# Altium integrated library Plumo-2D.IntLib: 38 symbols
Pins are listed as number, name and electrical type; pins without a type are passive.

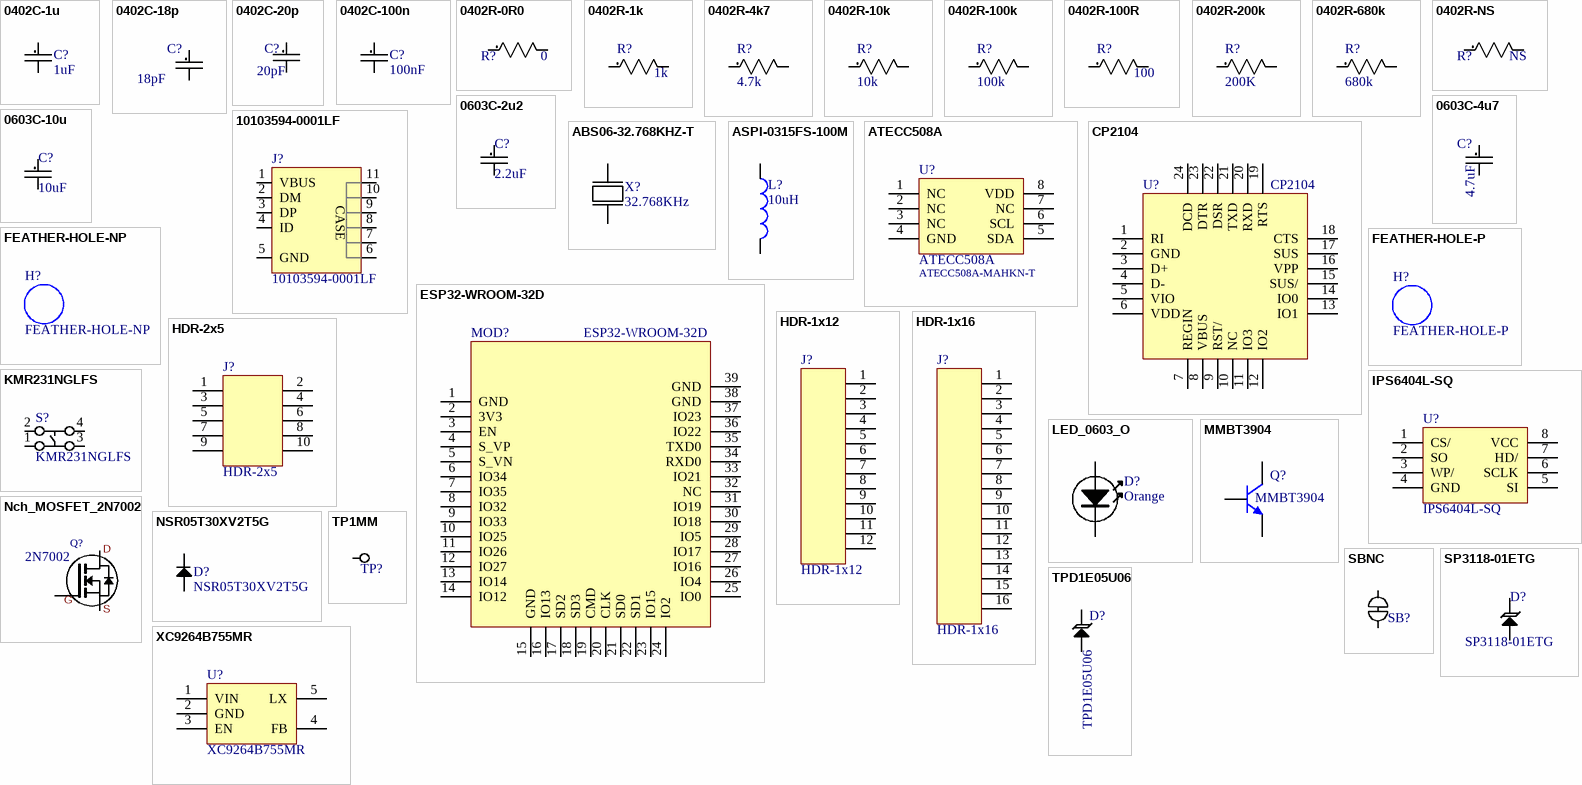
[diagram p0: symbols 0402C-1u to XC9264B755MR]

## 0402C-1u
designator C?, comment 1uF
Capacitor 1uF X5R 6.3V 20% 0402; Manufacturer: SEM; Manufacturer Part Number: CL05A105KQ5NNNC; item_number: E-CAP-00020-00; Type: Chip Monolithic Ceramic Capacitor; Voltage Rating DC: 6.3 VDC; Capacitance - nF: 1000 nF; Value: 1u; Packaging: Cut Tape; Capacitance: 1uF; Tolerance: 20 %; Dielectric: X5R; Length: 1 mm; Height: 0.5 mm; Width: 0.5 mm; RoHS: RoHS Compliant; Category: Multilayer Ceramic Capacitors MLCC - SMD/SMT; Package / Case: 0402 (1005 metric); Product: General Type MLCCs; Series: GRM; Termination Style: SMD/SMT; Brand: SEM; Case Code - in: 0402; Case Code - mm: 1005; Maximum Operating Temperature: + 85 C; Minimum Operating Temperature: - 55 C; Standard Pack Qty: 50000; RoHS - Mouser: Y; Minimum Order Quantity: 1; Reeling: True
footprint 0402C-GENERIC (Chip Capacitor, 2-Leads, Body 1.00x0.50mm, IPC High Density)
pins: 1, 2

## 0402C-18p
designator C?, comment 18pF
Capacitor, 18pF, 50V, 1%, C0G; Manufacturer: Murata; Manufacturer Part Number: GJM1555C1H180FB01D; item_number: E-CAP-00110-00; Mount: Surface Mount; Case/Package: 0402; Case Code (Metric): 1005; Case Code (Imperial): 0402; Min Operating Temperature: -55°C; Max Operating Temperature: 125°C; Capacitance: 18pF; Tolerance: 1%; Voltage Rating: 50V; Voltage Rating (DC): 50V; Packaging: Tape and Reel; Package Quantity: 10000; Dielectric: C0G; Termination: SMD/SMT; Length: 1mm; Height: 0.5mm; Width: 0.02inch; Thickness: 0.022inch; Depth: 0.5mm; Radiation Hardening: No; REACH SVHC: No SVHC; Lead Free: Lead Free
footprint 0402C-GENERIC
pins: 1, 2

## 0402C-20p
designator C?, comment 20pF
Capacitor 20pF C0G 50V 1% 0402; Manufacturer: Murata; Manufacturer Part Number: GJM1555C1H200FB01D; item_number: E-CAP-00107-00; Mount: Surface Mount; Case/Package: 0402; Case Code (Metric): 1005; Case Code (Imperial): 0402; Min Operating Temperature: -55°C; Max Operating Temperature: 125°C; Capacitance: 20pF; Tolerance: 1%; Voltage Rating: 50V; Voltage Rating (DC): 50V; Packaging: Tape and Reel; Package Quantity: 10000; Dielectric: C0G; Termination: SMD/SMT; Length: 1mm; Height: 0.5mm; Width: 0.02inch; Thickness: 0.022inch; Depth: 0.5mm; Radiation Hardening: No; REACH SVHC: No SVHC; Lead Free: Lead Free
footprint 0402C-GENERIC
pins: 1, 2

## 0402C-100n
designator C?, comment 100nF
Capacitor 100nF X5R 50V 10% 0402; Manufacturer: Murata; Manufacturer Part Number: GRM155R61H104KE19D; item_number: E-CAP-00090-00; Supplier 1: Mouser; Stock 1: 727844; Pricing 1: 1=0.1, 10=0.068, 50=0.068, 100=0.03, 1000=0.017, 10000=0.011 (USD); Mount: Surface Mount; Case/Package: 0402; Case Code (Metric): 1005; Case Code (Imperial): 0402; Min Operating Temperature: -55°C; Max Operating Temperature: 85°C; Packaging: Tape and Reel; Capacitance: 100nF; Tolerance: 10%; Voltage Rating: 50V; Dielectric: X5R; Voltage: 50V; Voltage Rating (DC): 50V; Length: 1mm; Height: 0.5mm; Width: 0.02inch; Thickness: 0.022inch; Depth: 0.5mm; REACH SVHC: No SVHC; Lead Free: Lead Free; Supplier Part Number 1: 81-GRM155R61H104KE9D
footprint 0402C-GENERIC
pins: 1, 2

## 0402R-0R0
designator R?, comment 0
Resistor 0R 50V 1% 0402; Manufacturer: Yageo; Manufacturer Part Number: RC0402FR-070RL; Resistance: 0mR; Power Rating: 62.5mW; Temperature Coefficient: 200ppm/°C; item_number: E-RES-00006-00; Supplier 1: Mouser; Supplier Part Number 1: 603-RC0402FR-070RL; Stock 1: 240535; Pricing 1: 1=0.1, 10=0.01, 50=0.01, 100=0.003, 1000=0.002, 10000=0.002 (USD); Case/Package: 0402; Contact Plating: Tin,Matte; Case Code (Imperial): 0402; Case Code (Metric): 1005; Min Operating Temperature: -55°C; Max Operating Temperature: 155°C; Composition: Thick Film; Tolerance: 1%; Packaging: Tape and Reel; Voltage Rating: 50V; Termination: SMD/SMT; Length: 1mm; Height: 0.35mm; Width: 0.5mm; Radiation Hardening: No; Lead Free: Lead Free; ComponentLink1URL: https://datasheet.ciiva.com/8896/pyu-rc0402-51-rohs-l-6-8896149.pdf; ComponentLink1Description: https://datasheet.ciiva.com/8896/pyu-rc0402-51-rohs-l-6-8896149.pdf; ComponentLink2URL: https://datasheet.ciiva.com/16790/pyu-rc0402-51-rohs-l-6-r-16790444.pdf; ComponentLink2Description: https://datasheet.ciiva.com/16790/pyu-rc0402-51-rohs-l-6-r-16790444.pdf; ComponentLink3URL: https://datasheet.ciiva.com/28419/pyu-rc0402-51-rohs-l-6-28419661.pdf; ComponentLink3Description: https://datasheet.ciiva.com/28419/pyu-rc0402-51-rohs-l-6-28419661.pdf; ComponentLink4URL: https://datasheet.ciiva.com/16869/pyu-rc0402-51-rohs-l-6-16869518.pdf; ComponentLink4Description: https://datasheet.ciiva.com/16869/pyu-rc0402-51-rohs-l-6-16869518.pdf; Value: 0
footprint 0402R-GENERIC (Chip Resistor, 2-Leads, Body 1.00x0.50mm, IPC Medium Density)
pins: 1, 2

## 0402R-1k
designator R?, comment 1k
Resistor 1K 50V 5% 0402; Manufacturer: Panasonic; Manufacturer Part Number: ERJ-2GEJ102X; Power Rating: 100mW; Temperature Coefficient: 50ppm/°C; item_number: E-RES-00002-00; Pricing 1: 1=0.1, 10=0.076, 100=0.029, 1000=0.0128, 2500=0.011, 5000=0.0099 (USD); Case/Package: 0402; Case Code (Metric): 1005; Case Code (Imperial): 0402; Contact Plating: Tin,Lead,Matte; Min Operating Temperature: -55°C; Max Operating Temperature: 125°C; Resistance: 1k; Tolerance: 5%; Packaging: Tape and Reel; Voltage Rating: 50V; Composition: Thin Film; Voltage Rating (DC): 50V; Number of Terminations: 2; Termination: SMD/SMT; Package Quantity: 10000; Military Standard: Not; Max Power Dissipation: 100mW; Length: 1mm; Height: 0.014inch; Width: 0.02inch; Depth: 0.5mm; Lead Free: Lead Free; Radiation Hardening: No
footprint 0402R-GENERIC (Chip Resistor, 2-Leads, Body 1.00x0.50mm, IPC Medium Density)
pins: 1, 2

## 0402R-4k7
designator R?, comment 4.7k
Resistor 4.7K 50V 5% 0402; Manufacturer: Panasonic; Manufacturer Part Number: ERJ-2GEJ472X; Temperature Coefficient: 200ppm/°C; Power Rating: 100mW; item_number: E-RES-00039-00; Supplier 1: Digi-Key; Supplier Part Number 1: P4.7KJCT-ND; Stock 1: 10404054; Pricing 1: 1=0.1, 10=0.038, 100=0.0154, 1000=0.0069, 2500=0.006, 5000=0.005 (USD); Mount: Surface Mount; Case/Package: 0402; Case Code (Imperial): 0402; Case Code (Metric): 1005; Contact Plating: Tin; Min Operating Temperature: -55°C; Max Operating Temperature: 155°C; Resistance: 4.7k; Tolerance: 5%; Voltage Rating: 50V; Packaging: Cut Tape; Termination: SMD/SMT; Military Standard: Not; Package Quantity: 1; Composition: Thick Film; Number of Terminations: 2; Max Power Dissipation: 100mW; Voltage Rating (DC): 50V; Features: Automotive AEC-Q200; Length: 1mm; Height: 0.35mm; Width: 0.5mm; Depth: 0.5mm; Radiation Hardening: No; REACH SVHC: No SVHC; Lead Free: Lead Free; ComponentLink1URL: https://datasheet.ciiva.com/11821/0900766b80f806dd-11821328.pdf; ComponentLink1Description: https://datasheet.ciiva.com/11821/0900766b80f806dd-11821328.pdf; ComponentLink2URL: https://datasheet.ciiva.com/16758/70260739-16758341.pdf; ComponentLink2Description: https://datasheet.ciiva.com/16758/70260739-16758341.pdf; ComponentLink3URL: https://datasheet.ciiva.com/16770/70260739-16770309.pdf; ComponentLink3Description: https://datasheet.ciiva.com/16770/70260739-16770309.pdf; ComponentLink4URL: https://datasheet.ciiva.com/28514/1678796-28514168.pdf; ComponentLink4Description: https://datasheet.ciiva.com/28514/1678796-28514168.pdf; ComponentLink5URL: https://datasheet.ciiva.com/17213/aoa0000ce1-17213178.pdf; ComponentLink5Description: https://datasheet.ciiva.com/17213/aoa0000ce1-17213178.pdf; ComponentLink6URL: https://datasheet.ciiva.com/16523/aoa0000ce1-16523499.pdf; ComponentLink6Description: https://datasheet.ciiva.com/16523/aoa0000ce1-16523499.pdf; ComponentLink7URL: https://datasheet.ciiva.com/46377/1678796-46377565.pdf; ComponentLink7Description: https://datasheet.ciiva.com/46377/1678796-46377565.pdf
footprint 0402R-GENERIC (Chip Resistor, 2-Leads, Body 1.00x0.50mm, IPC Medium Density)
pins: 1, 2

## 0402R-10k
designator R?, comment 10k
Resistor 10K 50V 5% 0402; Manufacturer: Vishay Dale; Manufacturer Part Number: CRCW040210K0JNED; Power Rating: 63mW; Temperature Coefficient: 200ppm/°C; item_number: E-RES-00001-00; Supplier 1: Digi-Key; Supplier Part Number 1: 541-10KJCT-ND; Stock 1: 0; Pricing 1: 1=0.1, 10=0.031, 100=0.0125, 1000=0.0056, 2500=0.0049, 5000=0.004 (USD); Mount: Surface Mount; Case/Package: 0402; Weight: 2.3E-05oz; Case Code (Imperial): 0402; Case Code (Metric): 1005; Contact Plating: Tin; Min Operating Temperature: -55°C; Max Operating Temperature: 155°C; Resistance: 10k; Tolerance: 5%; Packaging: Tape and Reel; Termination: SMD/SMT; Package Quantity: 1; Voltage Rating: 50V; Composition: Thick Film; Military Standard: Not; Number of Terminations: 2; Max Power Dissipation: 63mW; Features: Automotive AEC-Q200; Length: 1mm; Height: 0.016inch; Depth: 0.5mm; Width: 0.5mm; Radiation Hardening: No; REACH SVHC: Unknown; ComponentLink1URL: https://datasheet.ciiva.com/2461/dcrcwe3-2461974.pdf; ComponentLink1Description: https://datasheet.ciiva.com/2461/dcrcwe3-2461974.pdf; ComponentLink2URL: https://datasheet.ciiva.com/2461/dcrcwe3-2461975.pdf; ComponentLink2Description: https://datasheet.ciiva.com/2461/dcrcwe3-2461975.pdf; ComponentLink3URL: https://datasheet.ciiva.com/2461/dcrcwe3-2461976.pdf; ComponentLink3Description: https://datasheet.ciiva.com/2461/dcrcwe3-2461976.pdf; ComponentLink4URL: https://datasheet.ciiva.com/7743/dcrcwe3-7743416.pdf; ComponentLink4Description: https://datasheet.ciiva.com/7743/dcrcwe3-7743416.pdf; ComponentLink5URL: https://datasheet.ciiva.com/16771/70201119-16771096.pdf; ComponentLink5Description: https://datasheet.ciiva.com/16771/70201119-16771096.pdf; ComponentLink6URL: https://datasheet.ciiva.com/7743/dcrcwe3-7743417.pdf; ComponentLink6Description: https://datasheet.ciiva.com/7743/dcrcwe3-7743417.pdf; ComponentLink7URL: https://datasheet.ciiva.com/16761/70201119-16761947.pdf; ComponentLink7Description: https://datasheet.ciiva.com/16761/70201119-16761947.pdf; ComponentLink8URL: https://datasheet.ciiva.com/3255/dcrcwe3-3255964.pdf; ComponentLink8Description: https://datasheet.ciiva.com/3255/dcrcwe3-3255964.pdf; ComponentLink9URL: https://datasheet.ciiva.com/3255/dcrcwe3-3255965.pdf; ComponentLink9Description: https://datasheet.ciiva.com/3255/dcrcwe3-3255965.pdf
footprint 0402R-GENERIC (Chip Resistor, 2-Leads, Body 1.00x0.50mm, IPC Medium Density)
pins: 1, 2

## 0402R-100k
designator R?, comment 100k
Resistor 100K 50V 5% 0402; Manufacturer: Panasonic; Manufacturer Part Number: ERJ-2GEJ104X; Power Rating: 100mW; Temperature Coefficient: 200ppm/°C; item_number: E-RES-00012-00; Supplier 1: Digi-Key; Supplier Part Number 1: P100KJCT-ND; Stock 1: 10583442; Pricing 1: 1=0.1, 10=0.038, 100=0.0154, 1000=0.0069, 2500=0.006, 5000=0.005 (USD); Mount: Surface Mount; Case/Package: 0402; Case Code (Imperial): 0402; Case Code (Metric): 1005; Contact Plating: Tin; Min Operating Temperature: -55°C; Max Operating Temperature: 155°C; Resistance: 100k; Tolerance: 5%; Packaging: Tape and Reel; Termination: SMD/SMT; Package Quantity: 1; Voltage Rating: 50V; Composition: Thick Film; Military Standard: Not; Number of Terminations: 2; Max Power Dissipation: 100mW; Features: Automotive AEC-Q200; Length: 1mm; Height: 0.35mm; Depth: 0.5mm; Width: 0.02inch; Radiation Hardening: No; REACH SVHC: No SVHC; ComponentLink1URL: https://datasheet.ciiva.com/11821/0900766b80f806dd-11821174.pdf; ComponentLink1Description: https://datasheet.ciiva.com/11821/0900766b80f806dd-11821174.pdf; ComponentLink2URL: https://datasheet.ciiva.com/22758/1500035-22758198.pdf; ComponentLink2Description: https://datasheet.ciiva.com/22758/1500035-22758198.pdf; ComponentLink3URL: https://datasheet.ciiva.com/34303/1986799-34303543.pdf; ComponentLink3Description: https://datasheet.ciiva.com/34303/1986799-34303543.pdf; ComponentLink4URL: https://datasheet.ciiva.com/24023/aoa0000ce1-37422-24023480.pdf; ComponentLink4Description: https://datasheet.ciiva.com/24023/aoa0000ce1-37422-24023480.pdf; ComponentLink5URL: https://datasheet.ciiva.com/16777/70260739-16777321.pdf; ComponentLink5Description: https://datasheet.ciiva.com/16777/70260739-16777321.pdf; ComponentLink6URL: https://datasheet.ciiva.com/16759/70260739-16759692.pdf; ComponentLink6Description: https://datasheet.ciiva.com/16759/70260739-16759692.pdf; ComponentLink7URL: https://datasheet.ciiva.com/48531/aoa0000ce1-48531084.pdf; ComponentLink7Description: https://datasheet.ciiva.com/48531/aoa0000ce1-48531084.pdf; ComponentLink8URL: https://datasheet.ciiva.com/9186/aoa0000ce1-9186685.pdf; ComponentLink8Description: https://datasheet.ciiva.com/9186/aoa0000ce1-9186685.pdf; ComponentLink9URL: https://datasheet.ciiva.com/30204/4aoa0000ce1-30204557.pdf; ComponentLink9Description: https://datasheet.ciiva.com/30204/4aoa0000ce1-30204557.pdf; Voltage Rating (DC): 50V; Lead Free: Lead Free; ComponentLink10URL: https://datasheet.ciiva.com/46389/1500035-46389645.pdf; ComponentLink10Description: https://datasheet.ciiva.com/46389/1500035-46389645.pdf
footprint 0402R-GENERIC (Chip Resistor, 2-Leads, Body 1.00x0.50mm, IPC Medium Density)
pins: 1, 2

## 0402R-100R
designator R?, comment 100
Resistor 100R 50V 5% 0402; Manufacturer: Panasonic; Manufacturer Part Number: ERJ-2GEJ101X; Temperature Coefficient: 100ppm/°C; Power Rating: 100mW; item_number: E-RES-00008-00; Pricing 1: 1=0.1, 10=0.044, 100=0.0178, 1000=0.008, 2500=0.007, 5000=0.0058 (USD); Mount: Surface Mount; Case/Package: 0402; Weight: 2.3E-05oz; Case Code (Metric): 1005; Case Code (Imperial): 0402; Contact Plating: Tin; Min Operating Temperature: -55°C; Max Operating Temperature: 155°C; Resistance: 100; Tolerance: 5%; Packaging: Tape and Reel; Voltage Rating (DC): 50V; Voltage Rating: 50V; Termination: SMD/SMT; Package Quantity: 10; Composition: Thick Film; Number of Terminations: 2; Military Standard: Not; Max Power Dissipation: 100mW; Features: Automotive AEC-Q200; Working Voltage: 50V; Length: 1mm; Height: 0.35mm; Width: 0.02inch; Depth: 0.5mm; Radiation Hardening: No; REACH SVHC: Unknown; Lead Free: Lead Free
footprint 0402R-GENERIC (Chip Resistor, 2-Leads, Body 1.00x0.50mm, IPC Medium Density)
pins: 1, 2

## 0402R-200k
designator R?, comment 200K
Resistor 200K 50V 1% 0402; Manufacturer: Panasonic; Manufacturer Part Number: ERJ-2RKF2003X; Power Rating: 100mW; Temperature Coefficient: 200ppm/°C; item_number: E-RES-00054-00; Mount: Surface Mount; Case/Package: 0402; Case Code (Metric): 1005; Case Code (Imperial): 0402; Contact Plating: Tin; Min Operating Temperature: -55°C; Max Operating Temperature: 155°C; Resistance: 200K; Tolerance: 1%; Packaging: Tape and Reel; Termination: SMD/SMT; Package Quantity: 1; Voltage Rating: 50V; Composition: Thick Film; Max Power Dissipation: 100mW; Number of Terminations: 2; Military Standard: Not; Voltage Rating (DC): 50V; Features: Automotive AEC-Q200; Length: 1mm; Height: 0.35mm; Depth: 0.5mm; Width: 0.02inch; Radiation Hardening: No; REACH SVHC: No SVHC; Lead Free: Lead Free
footprint 0402R-GENERIC (Chip Resistor, 2-Leads, Body 1.00x0.50mm, IPC Medium Density)
pins: 1, 2

## 0402R-680k
designator R?, comment 680k
Resistor 680K 50V 5% 0402; Manufacturer: Panasonic; Manufacturer Part Number: ERJ-2GEJ684X; Power Rating: 100mW; Temperature Coefficient: 200ppm/°C; item_number: E-RES-00093-00; Supplier 1: Digi-Key; Supplier Part Number 1: P100KJCT-ND; Stock 1: 10583442; Mount: Surface Mount; Case/Package: 0402; Case Code (Metric): 1005; Case Code (Imperial): 0402; Contact Plating: Tin; Min Operating Temperature: -55°C; Max Operating Temperature: 155°C; Resistance: 680k; Tolerance: 5%; Packaging: Tape and Reel; Termination: SMD/SMT; Package Quantity: 1; Voltage Rating: 50V; Composition: Thick Film; Max Power Dissipation: 100mW; Number of Terminations: 2; Military Standard: Not; Voltage Rating (DC): 50V; Features: Automotive AEC-Q200; Length: 1mm; Height: 0.35mm; Depth: 0.5mm; Width: 0.02inch; Radiation Hardening: No; REACH SVHC: No SVHC; Lead Free: Lead Free
footprint 0402R-GENERIC (Chip Resistor, 2-Leads, Body 1.00x0.50mm, IPC Medium Density)
pins: 1, 2

## 0402R-NS
designator R?, comment NS  (no BOM)
Resistor 0402 No Stuff; Tolerance: 1%; Case/Package: 0402; Contact Plating: Tin,Matte; Case Code (Imperial): 0402; Case Code (Metric): 1005; Min Operating Temperature: -55°C; Max Operating Temperature: 155°C; Composition: Thick Film; Termination: SMD/SMT; Length: 1mm; Height: 0.35mm; Width: 0.5mm; Radiation Hardening: No; Lead Free: Lead Free; Value: NS
footprint 0402R-GENERIC (Chip Resistor, 2-Leads, Body 1.00x0.50mm, IPC Medium Density)
pins: 1, 2

## 0603C-2u2
designator C?, comment 2.2uF
Capacitor 2.2uF X5R 25V 10% 0603; Manufacturer: Murata; Manufacturer Part Number: GRM188R61E225KA12D; Value: 2u2; Material: Ceramic; item_number: E-CAP-00108-00; Mount: Surface Mount; Case/Package: 0603; Weight: 0.000222oz; Case Code (Metric): 1608; Case Code (Imperial): 0603; Min Operating Temperature: -55°C; Max Operating Temperature: 85°C; Capacitance: 2.2uF; Tolerance: 10%; Packaging: Tape and Reel; Dielectric: X5R; Voltage Rating: 25V; Termination: SMD/SMT; Voltage Rating (DC): 25V; Package Quantity: 4000; Length: 1.6mm; Height: 0.9mm; Width: 0.8mm; Thickness: 0.037inch; Depth: 0.8mm; REACH SVHC: No SVHC; Lead Free: Lead Free
footprint 0603C-GENERIC (CAPACITOR 0603)
pins: 1, 2

## 0603C-4u7
designator C?, comment 4.7uF
Capacitor 4.7uF X5R 10V 10% 0603; Manufacturer: Taiyo Yuden; Manufacturer Part Number: LMK107BJ475KA-T; Value: 4u7; Material: Ceramic; item_number: E-CAP-00066-00; Mount: Surface Mount; Case/Package: 0603; Weight: 0.000222oz; Case Code (Metric): 1608; Case Code (Imperial): 0603; Min Operating Temperature: -55°C; Max Operating Temperature: 85°C; Capacitance: 4.7uF; Tolerance: 10%; Packaging: Tape and Reel; Dielectric: X5R; Voltage Rating: 10V; Termination: SMD/SMT; Voltage Rating (DC): 10V; Package Quantity: 4000; Length: 1.6mm; Height: 0.9mm; Width: 0.8mm; Thickness: 0.035inch; Depth: 0.8mm; REACH SVHC: No SVHC; Lead Free: Lead Free
footprint 0603C-GENERIC (CAPACITOR 0603)
pins: 1, 2

## 0603C-10u
designator C?, comment 10uF
Capacitor 10uF X5R 16V 20% 0603; Manufacturer: Murata; Manufacturer Part Number: GRM188R61C106MA73D; Value: 10u; Material: Ceramic; item_number: E-CAP-00100-00; Mount: Surface Mount; Case/Package: 0603; Weight: 0.000222oz; Case Code (Metric): 1608; Case Code (Imperial): 0603; Min Operating Temperature: -55°C; Max Operating Temperature: 85°C; Capacitance: 10uF; Tolerance: 20%; Packaging: Tape and Reel; Dielectric: X5R; Voltage Rating: 16V; Termination: SMD/SMT; Voltage Rating (DC): 16V; Package Quantity: 4000; Length: 1.6mm; Height: 1mm; Width: 0.8mm; Thickness: 0.037inch; Depth: 0.8mm; REACH SVHC: No SVHC; Lead Free: Lead Free
footprint 0603C-GENERIC (CAPACITOR 0603)
pins: 1, 2

## 10103594-0001LF
designator J?
Connector MICRO USB B; Manufacturer: Amphenol FCI; Gender: Receptacle; Voltage Rating: 100V; Current Rating: 1.8A; Connector Type: USB,Receptacle; Number of Ports: 1; Insulation Resistance: 1GR; Number of Contacts: 5; USB Standard: USB 2.0; Pitch: 0.65mm; item_number: M-CON-00011-00; Supplier 1: Digi-Key; Supplier Part Number 1: 609-4050-1-ND; Manufacturer Part Number: 10103594-0001LF; Stock 1: 103885; Pricing 1: 1=0.82, 10=0.721, 25=0.6788, 50=0.6504, 100=0.6221, 250=0.5655, 500=0.509 (USD); Mount: Surface Mount,Horizontal; Contact Plating: Gold; Contact Material: Copper,Copper Alloy; Number of Terminals: 5; Housing Material: Thermoplastic; Min Operating Temperature: -55°C; Max Operating Temperature: 85°C; Termination: Solder; Orientation: Right Angle; Packaging: Tape and Reel; Package Quantity: 1500; Max Voltage Rating (AC): 100V; Features: Shielded; Length: 8.04mm; Radiation Hardening: No; REACH SVHC: No SVHC; Lead Free: Lead Free; ComponentLink1URL: https://datasheet.ciiva.com/8015/10103594-8015248.pdf; ComponentLink1Description: https://datasheet.ciiva.com/8015/10103594-8015248.pdf; ComponentLink2URL: https://datasheet.ciiva.com/11731/0900766b80ed1ae4-11731328.pdf; ComponentLink2Description: https://datasheet.ciiva.com/11731/0900766b80ed1ae4-11731328.pdf; ComponentLink3URL: https://datasheet.ciiva.com/14618/70236822-14618885.pdf; ComponentLink3Description: https://datasheet.ciiva.com/14618/70236822-14618885.pdf; ComponentLink4URL: https://datasheet.ciiva.com/22654/1469075-22654519.pdf; ComponentLink4Description: https://datasheet.ciiva.com/22654/1469075-22654519.pdf; ComponentLink5URL: https://datasheet.ciiva.com/851/10103594-851115.pdf; ComponentLink5Description: https://datasheet.ciiva.com/851/10103594-851115.pdf; ComponentLink6URL: https://datasheet.ciiva.com/5726/10103594-5726971.pdf; ComponentLink6Description: https://datasheet.ciiva.com/5726/10103594-5726971.pdf; ComponentLink7URL: https://datasheet.ciiva.com/851/10103594-851116.pdf; ComponentLink7Description: https://datasheet.ciiva.com/851/10103594-851116.pdf; ComponentLink8URL: https://datasheet.ciiva.com/851/10103594-851117.pdf; ComponentLink8Description: https://datasheet.ciiva.com/851/10103594-851117.pdf
footprint 10103594-0001LF (USB Micro B)
pins: 1 VBUS, 2 DM, 3 DP, 4 ID, 5 GND, 6 CASE, 7 CASE, 8 CASE, 9 CASE, 10 CASE, 11 CASE

## ABS06-32.768KHZ-T
designator X?, comment 32.768KHz
Crystal, 32.768kHz ±20ppm; Manufacturer: Abracon; Manufacturer Part Number: ABS06-32.768KHZ-T; Load Capacitance: 12.5pF; ESR (Equivalent Series Resistance): 90kR; Insulation Resistance: 500MR; item_number: E-XTL-00012-00; Supplier 1: Digi-Key; Supplier Part Number 1: 535-10104-1-ND; Stock 1: 65982; Pricing 1: 1=1.34, 10=1.277, 50=1.2474, 100=1.0692, 500=1.0395, 1000=0.8762 (USD); Mount: Surface Mount; Case/Package: SMD/SMT; Number of Pins: 2; Min Operating Temperature: -40°C; Max Operating Temperature: 85°C; Frequency: 32.768kHz; Frequency Tolerance: 20ppm; Packaging: Tape and Reel; Tolerance: 20ppm; Package Quantity: 3000; Termination: SMD/SMT; Series Resistance: 90kR; Frequency Stability: 20ppm; Length: 2mm; Height: 0.024inch; Width: 1.2mm; Depth: 1.2mm; Radiation Hardening: No; REACH SVHC: No SVHC; Lead Free: Lead Free; ComponentLink1URL: http://www.farnell.com/datasheets/1796520.pdf; ComponentLink1Description: http://www.farnell.com/datasheets/1796520.pdf; ComponentLink2URL: https://abracon.com/Support/PackageDrawing/Resonators/ABS06.PDF; ComponentLink2Description: https://abracon.com/Support/PackageDrawing/Resonators/ABS06.PDF; ComponentLink3URL: http://www.farnell.com/datasheets/1912788.pdf; ComponentLink3Description: http://www.farnell.com/datasheets/1912788.pdf; ComponentLink4URL: http://www.abracon.com/Resonators/ABS06.pdf; ComponentLink4Description: http://www.abracon.com/Resonators/ABS06.pdf
footprint ABS06 (Abracon ABS06 crystal oscillator.)
pins: 1, 2

## ASPI-0315FS-100M
designator L?, comment 10uH
Inductor 10uH 1.1A 0.22ohm 20% 3x3; Manufacturer: Abracon; Manufacturer Part Number: ASPI-0315FS-100M; item_number: E-IND-00043-00; Value: 10uH
footprint ASPI-0315FS (LOW PROFILE SHIELDED SMD CHIP POWER INDUCTOR)
pins: 1, 2

## ATECC508A
designator U?  Manufacturer Part Number: ATECC508A-MAHKN-T
Afero Custom CryptoAuthentication Device; Manufacturer: Microchip / Atmel; item_number: E-ICS-00072-00; Supplier 1: Digi-Key; Supplier Part Number 1: ATECC508A-MAHDA-TCT-ND; Stock 1: 4638; Pricing 1: 1=0.35, 25=0.32, 100=0.29 (USD); Mount: Surface Mount; Min Operating Temperature: -40°C; Max Operating Temperature: 85°C; Packaging: Tape and Reel
footprint SON50P300X60-8N (SON, 8-Leads, Body 2.00x3.00mm, Pitch 0.50mm, IPC Medium Density)
pins: 1 NC, 2 NC, 3 NC, 4 GND (power), 5 SDA, 6 SCL, 7 NC, 8 VDD (power)

## CP2104
designator U?
USB to UART Bridge; Manufacturer Part Number: CP2104-F03-GM; Manufacturer: SiLabs; item_number: E-ICS-00098-00
footprint CP2104 (CP2104 4x4mm QFN)
pins: 1 RI, 2 GND, 3 D+, 4 D-, 5 VIO, 6 VDD, 7 REGIN, 8 VBUS, 9 RST/, 10 NC, 11 IO3, 12 IO2, 13 IO1, 14 IO0, 15 SUS/, 16 VPP, 17 SUS, 18 CTS, 19 RTS, 20 RXD, 21 TXD, 22 DSR, 23 DTR, 24 DCD

## ESP32-WROOM-32D
designator MOD?
Module WIFI BLE ESP32-D0WD 4MB; Manufacturer: Espressif; Item_number: E-ICS-00097-00; Size: 25.5mm x 18mm; Manufacturer Part Number: ESP32-WROOM-32D
footprint ESP32-WROOM-32D (Generic Wi-Fi+BT+BLE MCU Module)
pins: 1 GND, 2 3V3, 3 EN, 4 S_VP, 5 S_VN, 6 IO34, 7 IO35, 8 IO32, 9 IO33, 10 IO25, 11 IO26, 12 IO27, 13 IO14, 14 IO12, 15 GND, 16 IO13, 17 SD2, 18 SD3, 19 CMD, 20 CLK, 21 SD0, 22 SD1, 23 IO15, 24 IO2, 25 IO0, 26 IO4, 27 IO16, 28 IO17, 29 IO5, 30 IO18, 31 IO19, 32 NC, 33 IO21, 34 RXD0, 35 TXD0, 36 IO22, 37 IO23, 38 GND, 39 GND

## FEATHER-HOLE-NP
designator H?  (no BOM)
0.09" Unplated Hole
footprint FEATHER-HOLE-NP (Feather Board Hole not Plated)

## FEATHER-HOLE-P
designator H?  (no BOM)
0.1" Plated Hole
footprint FEATHER-HOLE-P (Feather Board Hole Plated)

## HDR-1x12
designator J?
0.1" header 12 positions; Manufacturer Part Number: 22032121; Manufacturer: Molex; item_number: M-CON-00086-00
footprint HDR-1X12 (Machine Pin Vertical Male Header 12 pins)
pins: 1, 2, 3, 4, 5, 6, 7, 8, 9, 10, 11, 12

## HDR-1x16
designator J?
0.1" header 16 positions; Manufacturer Part Number: 22032161; Manufacturer: Molex; item_number: M-CON-00087-00
footprint HDR-1X16 (Machine Pin Vertical Male Header 18 pins)
pins: 1, 2, 3, 4, 5, 6, 7, 8, 9, 10, 11, 12, 13, 14, 15, 16

## HDR-2x5
designator J?
.050 Male Header 2x5; Manufacturer Part Number: GRPB052VWVN-RC; item_number: M-CON-00016-00
footprint S9015E-05 (.050" Dual Row Male Header)
pins: 1, 2, 3, 4, 5, 6, 7, 8, 9, 10

## IPS6404L-SQ
designator U?
Memory SPI/QPI PSRAM 8MB SOIC8 150mil; Manufacturer: IPUS; Manufacturer Part Number: IPS6404L-SQ-SPN; item_number: E-ICS-00099-00; Package / Case: 8 SOIC 150mil
footprint IPUS.PSRAM (SOP, 8-Leads, Body 4.90x3.90mm, Pitch 1.27mm, IPC Medium Density)
pins: 1 CS/, 2 SO, 3 WP/, 4 GND, 5 SI, 6 SCLK, 7 HD/, 8 VCC

## KMR231NGLFS
designator S?
SMD Tact Switch; Manufacturer: ITT C&K; item_number: E-SWI-00022; Mechanical Life: 150000Cycles; Throw Configuration: SPST; Operating Force: 3N; Max Current Rating: 50mA; Max Voltage Rating (DC): 32V; Power Rating: 1W; Illumination Type: Non-Illuminated; Switch Travel: 0.25mm; Switch Function: Off-Mom; Actuator Type: Standard; Actuator Length: 0.5mm; Supplier 1: Digi-Key; Supplier Part Number 1: CKN10246CT-ND; Manufacturer Part Number: KMR231NGLFS; Stock 1: 45821; Pricing 1: 1=0.52, 10=0.499, 25=0.4896, 50=0.4712, 100=0.4065, 250=0.3696, 500=0.3511, 1000=0.2772 (USD); Mount: Surface Mount; Case/Package: SMD/SMT; Contact Material: Silver; Contact Plating: Silver; Min Operating Temperature: -40°C; Max Operating Temperature: 85°C; Termination: Gull Wing; Packaging: Tape and Reel; Current Rating: 50mA; Package Quantity: 7000; Voltage Rating (DC): 32V; Orientation: Straight; Length: 2.8mm; Depth: 2.8mm; Radiation Hardening: No; ComponentLink1URL: https://www.ckswitches.com/media/1479/kmr2.pdf; ComponentLink1Description: https://www.ckswitches.com/media/1479/kmr2.pdf; ComponentLink2URL: http://www.ck-components.com/14414/kmr2_9aug12.pdf/; ComponentLink2Description: http://www.ck-components.com/14414/kmr2_9aug12.pdf/
footprint KMR231NGLFS (Microminiature Tact Switch for SMT)
pins: 1, 2, 3, 4

## LED_0603_O
designator D?, comment Orange
LED Orange 0603; Manufacturer: Vishay Lite-On; Manufacturer Part Number: LTST-C190KAKT; Colour: Red,Orange; Lens Colour: Colorless; Forward Voltage: 2V; Test Current: 20mA; Forward Current: 30mA; Wavelength: 621nm; Luminous Intensity: 54mcd; Lens Style: Flat,Diffused,Colorless,Rectangular; Viewing Angle: 130°; Dominant Wavelength: 615nm; Lens Transparency: Clear; Number of Elements: 1; Power Dissipation: 75mW; Reverse Voltage: 5V; item_number: E-LED-00012-00; Supplier 1: Digi-Key; Supplier Part Number 1: 160-1433-1-ND; Stock 1: 60967; Pricing 1: 1=0.41, 10=0.296, 25=0.2268, 100=0.148, 250=0.1085, 500=0.0921, 1000=0.0757 (USD); Mount: Surface Mount; Case/Package: 0603; Number of Pins: 2; Case Code (Metric): 1608; Case Code (Imperial): 0603; Min Operating Temperature: -55°C; Max Operating Temperature: 85°C; Packaging: Tape and Reel; Package Quantity: 1; Illumination Colour: Orange; Number of LEDs: 1; Orientation: Top View; Length: 1.6mm; Height: 0.8mm; Width: 0.8mm; Depth: 1.6mm; Radiation Hardening: No; Lead Free: Lead Free; ComponentLink1URL: https://datasheet.ciiva.com/24120/ltst-c190kakt-267511-24120611.pdf; ComponentLink1Description: https://datasheet.ciiva.com/24120/ltst-c190kakt-267511-24120611.pdf; ComponentLink2URL: https://datasheet.ciiva.com/26937/getdatasheetpartid-257177-26937956.pdf; ComponentLink2Description: https://datasheet.ciiva.com/26937/getdatasheetpartid-257177-26937956.pdf; ComponentLink3URL: https://datasheet.ciiva.com/2110/ltst-c150-170-190kxkt-2110261.pdf; ComponentLink3Description: https://datasheet.ciiva.com/2110/ltst-c150-170-190kxkt-2110261.pdf; ComponentLink4URL: https://datasheet.ciiva.com/2110/ltst-c150-170-190kxkt-2110262.pdf; ComponentLink4Description: https://datasheet.ciiva.com/2110/ltst-c150-170-190kxkt-2110262.pdf; ComponentLink5URL: https://datasheet.ciiva.com/2110/ltst-c150-170-190kxkt-2110263.pdf; ComponentLink5Description: https://datasheet.ciiva.com/2110/ltst-c150-170-190kxkt-2110263.pdf
footprint 0603LED (0603 LED)
pins: A, K

## MMBT3904
designator Q?
TR NPN BJT 200mA 40V; Manufacturer Part Number: MMBT3904LT1G; Manufacturer: On Semiconductor; item_number: E-TRS-00002-00; ComponentLink1Description: Manufacturer Link; ComponentLink1URL: http://www.fairchildsemi.com/; ComponentLink2Description: Datasheet; ComponentLink2URL: http://www.fairchildsemi.com/ds/2N%2F2N3904.pdf; Package/Case: SOT23
footprint sot23 (SOT23)
pins: 1 B, 2 E, 3 C

## Nch_MOSFET_2N7002
designator Q?, comment 2N7002
TR MOSFET N-CH 60V 115mA SOT23; Manufacturer: On Semiconductor; Commodity: FET; item_number: E-TRS-00003-00; Manufacturer Part Number: 2N7002; Value: 2N7002; Package / Case: SOT23
footprint SOT23 (SOT32)
footprint SC70-3 (SC70, 3-Leads, Body 2.00x2.10mm, Pitch 0.65mm, IPC Medium Density)
footprint SOT-323
pins: 1 G, 2 S, 3 D

## NSR05T30XV2T5G
designator D?
Diode Schottky 30V 0.5A SOD523; Manufacturer: On Semiconductor; Number of Channels: 1; Direction: Unidirectional; Leakage Current: 170uA/30V; Element Configuration: Single; Peak Pulse Current: 1.5A; item_number: E-DIO-00012-00; Manufacturer Part Number: NSR05T30XV2T5G; Mount: Surface Mount; Number of Pins: 2; Min Operating Temperature: -55°C; Max Operating Temperature: 150°C; Package Quantity: 10000; Packaging: Tape and Reel; Max Reverse Voltage (DC): 30V; Termination: SMD/SMT; Length: 1.6mm; Radiation Hardening: No; Lead Free: Lead Free; REACH SVHC: No SVHC; Voltage Rating (DC): 30V; Package / Case: SOD523
footprint SOD-523 (SODFL, 2-Leads, Body 0.80x1.60mm, IPC Medium Density)
pins: 1 I/O, 2 GND

## SBNC
designator SB?, comment Solderbridge  (value not drawn)  (net tie, no BOM)
Solderbridge, Normally Closed; Part Number: Solderbridge Shorted; Artikkelnr Noca: N.A.; Manufacturer: *; Manufacturer Part Number: *; Datasheet: *; LatestRevisionDate: 2012-08-07; Pin Count: 2; Value: Solderbridge; Note: *; Supplier: *; Supplier part number: *; Footprint Doc: Solderbridge_Shorted; Artikkelnr Simpro: N.A.
footprint SBNC (Solderbridge, Normally Closed)
pins: 1 0, 2 1

## SP3118-01ETG
designator D?
Diode TVS; Manufacturer: Littelfuse; Number of Channels: 1; Operating Supply Voltage: 18V; Capacitance: 0.3pF; Direction: Bidirectional; Clamping Voltage: 38V; Peak Pulse Power: 76W; Power Line Protection: Yes; Leakage Current: 50nA; Element Configuration: Single; Peak Pulse Current: 2A; item_number: E-DIO-00011-00; Manufacturer Part Number: SP3118-01ETG; Mount: Surface Mount; Number of Pins: 2; Min Operating Temperature: -40°C; Max Operating Temperature: 125°C; Package Quantity: 10000; Packaging: Tape and Reel; Number of Bidirectional Channels: 1; Min Breakdown Voltage: -; Reverse Standoff Voltage: 18V; Termination: SMD/SMT; Polarity: Bidirectional; Working Voltage: 18V; Max Power Dissipation: 76W; Length: 1mm; Radiation Hardening: No; Lead Free: Lead Free; REACH SVHC: No SVHC
footprint SOD882 (SOD 2-Leads, Body 0.60x1.00mm, Pitch 0.65mm, IPC Medium Density)
pins: 1 I/O, 2 GND

## TP1MM
designator TP?  (value not drawn)  (no BOM)
1mm Test Point; item_number: =item_name
footprint TP1MM (1mm test point)
pins: 1

## TPD1E05U06
designator D?
Diode TVS; Manufacturer: Texas Instruments; Manufacturer Part Number: TPD1E05U06DPYR; Number of Channels: 1; Interface: LVDS,USB,Ethernet,HDMI,PCIe,SATA; Operating Supply Voltage: 5.5V; Capacitance: 0.5pF; Direction: Unidirectional; Min Breakdown Voltage: 6V; Clamping Voltage: 14V; Peak Pulse Power: 40W; Power Line Protection: Yes; Breakdown Voltage: 6.5V; Polarity: Bidirectional; Leakage Current: 10nA; Element Configuration: Single; Peak Pulse Current: 2.5A; item_number: E-DIO-00008-00; Supplier 1: Digi-Key; Supplier Part Number 1: 296-39341-1-ND; Stock 1: 161045; Pricing 1: 1=0.5, 10=0.372, 100=0.2107, 500=0.1395, 1000=0.107 (USD); Mount: Surface Mount; Number of Pins: 2; Min Operating Temperature: -40°C; Max Operating Temperature: 125°C; Package Quantity: 10000; Packaging: Tape and Reel; Number of Bidirectional Channels: 1; Reverse Standoff Voltage: 5.5V; Termination: SMD/SMT; Working Voltage: 5.5V; Max Power Dissipation: 40W; Length: 1.1mm; Radiation Hardening: No; Lead Free: Lead Free; REACH SVHC: No SVHC; ComponentLink1URL: https://datasheet.ciiva.com/12545/tpd1e05u06-224685-12545140.pdf; ComponentLink1Description: https://datasheet.ciiva.com/12545/tpd1e05u06-224685-12545140.pdf; ComponentLink2URL: https://datasheet.ciiva.com/26918/getdatasheetpartid-700473-26918022.pdf; ComponentLink2Description: https://datasheet.ciiva.com/26918/getdatasheetpartid-700473-26918022.pdf; ComponentLink3URL: https://datasheet.ciiva.com/6574/tpd1e05u06-6574667.pdf; ComponentLink3Description: https://datasheet.ciiva.com/6574/tpd1e05u06-6574667.pdf
footprint SON70P100X45-2N (SON, 2-Leads, Body 0.60x1.00mm, Pitch 0.70mm, IPC Medium Density)
pins: 1 I/O, 2 GND

## XC9264B755MR
designator U?
Voltage Regulator 0.5A 500KHz Buck; Manufacturer: Torex; item_number: E-ICS-00096-00; Manufacturer Part Number: XC9264B755MR; Package / Case: SOT25
footprint SOT95P275X130-5N (SOT23, 5-Leads, Body 2.90x2.75mm, Pitch 0.95mm, IPC Medium Density)
pins: 1 VIN (power), 2 GND (power), 3 EN, 4 FB, 5 LX